# Altium footprint library SOT23-8.PcbLib: 1 footprints
Each footprint in its own frame and in the unit in brackets; x right, y up, seen from the top. Pads: shape width x height; smd on the part's side, far side on the other; paste and mask are expansions set on the pad; w line width, h text height; cw(c..) or ccw(c..) is an arc to the next point about the centre after c.
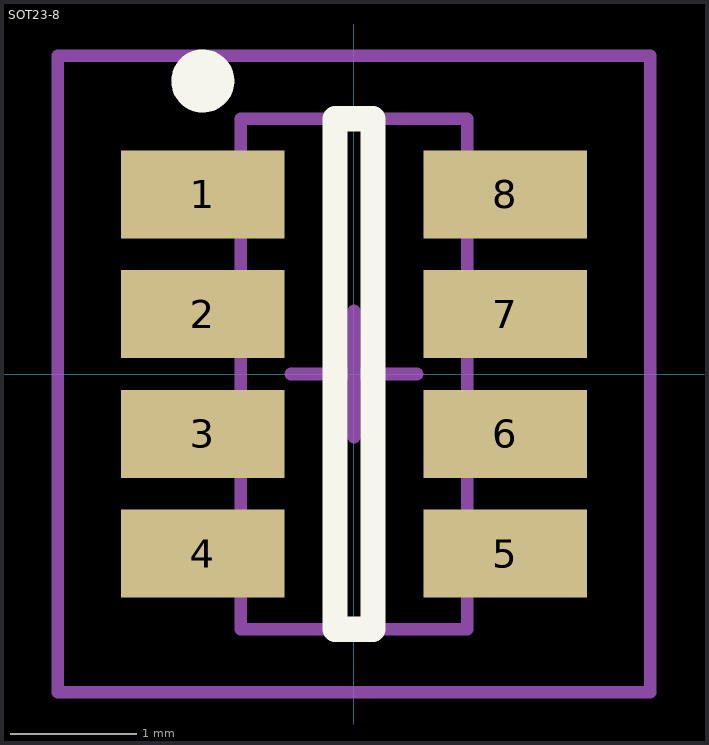
[diagram p0: the footprint, top view; thin cyan lines are the x and y axes]

## SOT23-8 [mm]
pads (8):
  rect 1.3x0.7 smd: 1(-1.2,1.425) 2(-1.2,0.475) 3(-1.2,-0.475) 4(-1.2,-1.425) 5(1.2,-1.425) 6(1.2,-0.475) 7(1.2,0.475) 8(1.2,1.425)
Top Overlay:
  circle w0.25: c-1.2,2.325 r0.125
  lines w0.2: -0.15,-2.025 -0.15,2.025 0.15,2.025 0.15,-2.025 -0.15,-2.025
Mechanical 13:
  lines w0.1: -0.9,-2.025 0.9,-2.025 0.9,2.025 -0.9,2.025 -0.9,-2.025
Mechanical 15:
  lines w0.1: -0.5,0 0.5,0 ; 0,-0.5 0,0.5 ; -2.35,-2.525 2.35,-2.525 2.35,2.525 -2.35,2.525 -2.35,-2.525
3D body: height 0, standoff 0, extent -0.9,-1.075 0.9,2.025